# Altium schematic symbol library Test_Point_Sch.SchLib: 1 symbol
Pins are listed as number, name and electrical type; pins without a type are passive.

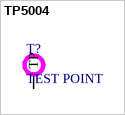
[diagram p0: symbol TP5004]

## TP5004
designator T?, comment TEST POINT
PC TEST POINT MINIATURE YELLOW 2.54MMX4.60MM; ComponentLink1Description: Link; ComponentLink1URL: https://ozdisan.com/konnektor-ve-baglanti-elemanlari/test-pointler/pc-test-pointler-ve-minyaturleri/L-KLS8-TP5004/600176
footprint TP_5005
pins: 1 TP